# Altium footprint library MSP430F5529.PcbLib: 3 footprints
Each footprint in its own frame and in the unit in brackets; x right, y up, seen from the top. Pads: shape width x height; smd on the part's side, far side on the other; paste and mask are expansions set on the pad; w line width, h text height; cw(c..) or ccw(c..) is an arc to the next point about the centre after c.
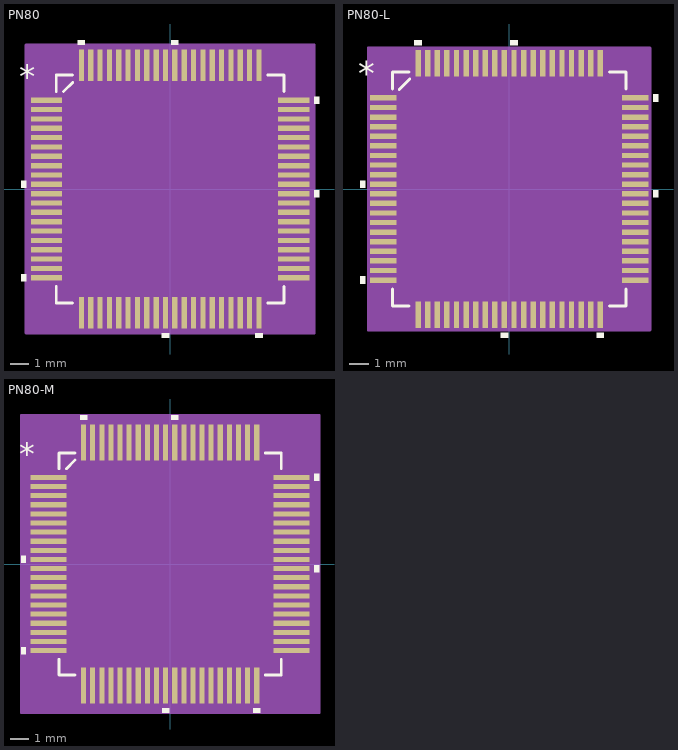
[diagram p0: the footprints below, top view; thin cyan lines are the x and y axes]

## PN80 [mil]
pads (80):
  rect 66x11 smd: 1(-260.5,187.01) 2(-260.5,167.32) 3(-260.5,147.64) 4(-260.5,127.95) 5(-260.5,108.27) 6(-260.5,88.58) 7(-260.5,68.9) 8(-260.5,49.21) 9(-260.5,29.53) 10(-260.5,9.84) 11(-260.5,-9.84) 12(-260.5,-29.53) 13(-260.5,-49.21) 14(-260.5,-68.9) 15(-260.5,-88.58) 16(-260.5,-108.27) 17(-260.5,-127.95) 18(-260.5,-147.64) 19(-260.5,-167.32) 20(-260.5,-187.01) 41(260.5,-187.01) 42(260.5,-167.32) 43(260.5,-147.64) 44(260.5,-127.95) 45(260.5,-108.27) 46(260.5,-88.58) 47(260.5,-68.9) 48(260.5,-49.21) 49(260.5,-29.53) 50(260.5,-9.84) 51(260.5,9.84) 52(260.5,29.53) 53(260.5,49.21) 54(260.5,68.9) 55(260.5,88.58) 56(260.5,108.27) 57(260.5,127.95) 58(260.5,147.64) 59(260.5,167.32) 60(260.5,187.01)
  rect 11x66 smd: 21(-187.01,-260.5) 22(-167.32,-260.5) 23(-147.64,-260.5) 24(-127.95,-260.5) 25(-108.27,-260.5) 26(-88.58,-260.5) 27(-68.9,-260.5) 28(-49.21,-260.5) 29(-29.53,-260.5) 30(-9.84,-260.5) 31(9.84,-260.5) 32(29.53,-260.5) 33(49.21,-260.5) 34(68.9,-260.5) 35(88.58,-260.5) 36(108.27,-260.5) 37(127.95,-260.5) 38(147.64,-260.5) 39(167.32,-260.5) 40(187.01,-260.5) 61(187.01,260.5) 62(167.32,260.5) 63(147.64,260.5) 64(127.95,260.5) 65(108.27,260.5) 66(88.58,260.5) 67(68.9,260.5) 68(49.21,260.5) 69(29.53,260.5) 70(9.84,260.5) 71(-9.84,260.5) 72(-29.53,260.5) 73(-49.21,260.5) 74(-68.9,260.5) 75(-88.58,260.5) 76(-108.27,260.5) 77(-127.95,260.5) 78(-147.64,260.5) 79(-167.32,260.5) 80(-187.01,260.5)
Top Overlay:
  region: -179.51,303.5 -194.51,303.5 -194.51,313.5 -179.51,313.5
  region: 17.34,303.5 2.34,303.5 2.34,313.5 17.34,313.5
  region: 303.5,194.51 313.5,194.51 313.5,179.51 303.5,179.51
  region: 303.5,-2.34 313.5,-2.34 313.5,-17.34 303.5,-17.34
  region: 194.51,-303.5 179.51,-303.5 179.51,-313.5 194.51,-313.5
  region: -2.34,-303.5 -17.34,-303.5 -17.34,-313.5 -2.34,-313.5
  region: -303.5,-179.51 -313.5,-179.51 -313.5,-194.51 -303.5,-194.51
  region: -303.5,17.34 -313.5,17.34 -313.5,2.34 -303.5,2.34
  lines w6: -240,-205.61 -240,-240 -205.61,-240 ; -240,205.61 -240,240 -205.61,240 ; -224.7,205.3 -205.3,224.7 ; 205.61,-240 240,-240 240,-205.61 ; 205.61,240 240,240 240,205.61
  text "*" at -318.5,211.85 h50
Mechanical 13:
  text "*" at -318.5,211.85 h50
Mechanical 15:
  region: 303.5,-303.5 -303.5,-303.5 -303.5,303.5 303.5,303.5
  lines w6: -303.5,-303.5 303.5,-303.5 303.5,303.5 -303.5,303.5 -303.5,-303.5

## PN80-L [mil]
pads (80):
  rect 54x11 smd: 1(-258.5,187.01) 2(-258.5,167.32) 3(-258.5,147.64) 4(-258.5,127.95) 5(-258.5,108.27) 6(-258.5,88.58) 7(-258.5,68.9) 8(-258.5,49.21) 9(-258.5,29.53) 10(-258.5,9.84) 11(-258.5,-9.84) 12(-258.5,-29.53) 13(-258.5,-49.21) 14(-258.5,-68.9) 15(-258.5,-88.58) 16(-258.5,-108.27) 17(-258.5,-127.95) 18(-258.5,-147.64) 19(-258.5,-167.32) 20(-258.5,-187.01) 41(258.5,-187.01) 42(258.5,-167.32) 43(258.5,-147.64) 44(258.5,-127.95) 45(258.5,-108.27) 46(258.5,-88.58) 47(258.5,-68.9) 48(258.5,-49.21) 49(258.5,-29.53) 50(258.5,-9.84) 51(258.5,9.84) 52(258.5,29.53) 53(258.5,49.21) 54(258.5,68.9) 55(258.5,88.58) 56(258.5,108.27) 57(258.5,127.95) 58(258.5,147.64) 59(258.5,167.32) 60(258.5,187.01)
  rect 11x54 smd: 21(-187.01,-258.5) 22(-167.32,-258.5) 23(-147.64,-258.5) 24(-127.95,-258.5) 25(-108.27,-258.5) 26(-88.58,-258.5) 27(-68.9,-258.5) 28(-49.21,-258.5) 29(-29.53,-258.5) 30(-9.84,-258.5) 31(9.84,-258.5) 32(29.53,-258.5) 33(49.21,-258.5) 34(68.9,-258.5) 35(88.58,-258.5) 36(108.27,-258.5) 37(127.95,-258.5) 38(147.64,-258.5) 39(167.32,-258.5) 40(187.01,-258.5) 61(187.01,258.5) 62(167.32,258.5) 63(147.64,258.5) 64(127.95,258.5) 65(108.27,258.5) 66(88.58,258.5) 67(68.9,258.5) 68(49.21,258.5) 69(29.53,258.5) 70(9.84,258.5) 71(-9.84,258.5) 72(-29.53,258.5) 73(-49.21,258.5) 74(-68.9,258.5) 75(-88.58,258.5) 76(-108.27,258.5) 77(-127.95,258.5) 78(-147.64,258.5) 79(-167.32,258.5) 80(-187.01,258.5)
Top Overlay:
  region: -179.51,295.5 -194.51,295.5 -194.51,305.5 -179.51,305.5
  region: 17.34,295.5 2.34,295.5 2.34,305.5 17.34,305.5
  region: 295.5,194.51 305.5,194.51 305.5,179.51 295.5,179.51
  region: 295.5,-2.34 305.5,-2.34 305.5,-17.34 295.5,-17.34
  region: 194.51,-295.5 179.51,-295.5 179.51,-305.5 194.51,-305.5
  region: -2.34,-295.5 -17.34,-295.5 -17.34,-305.5 -2.34,-305.5
  region: -295.5,-179.51 -305.5,-179.51 -305.5,-194.51 -295.5,-194.51
  region: -295.5,17.34 -305.5,17.34 -305.5,2.34 -295.5,2.34
  lines w6: -240,-205.61 -240,-240 -205.61,-240 ; -240,205.61 -240,240 -205.61,240 ; -225.73,204.27 -204.27,225.73 ; 205.61,-240 240,-240 240,-205.61 ; 205.61,240 240,240 240,205.61
  text "*" at -310.5,211.85 h50
Mechanical 13:
  text "*" at -310.5,211.85 h50
Mechanical 15:
  region: 289.5,-289.5 -289.5,-289.5 -289.5,289.5 289.5,289.5
  lines w6: -289.5,-289.5 289.5,-289.5 289.5,289.5 -289.5,289.5 -289.5,-289.5

## PN80-M [mil]
pads (80):
  rect 78x11 smd: 1(-262.5,187.01) 2(-262.5,167.32) 3(-262.5,147.64) 4(-262.5,127.95) 5(-262.5,108.27) 6(-262.5,88.58) 7(-262.5,68.9) 8(-262.5,49.21) 9(-262.5,29.53) 10(-262.5,9.84) 11(-262.5,-9.84) 12(-262.5,-29.53) 13(-262.5,-49.21) 14(-262.5,-68.9) 15(-262.5,-88.58) 16(-262.5,-108.27) 17(-262.5,-127.95) 18(-262.5,-147.64) 19(-262.5,-167.32) 20(-262.5,-187.01) 41(262.5,-187.01) 42(262.5,-167.32) 43(262.5,-147.64) 44(262.5,-127.95) 45(262.5,-108.27) 46(262.5,-88.58) 47(262.5,-68.9) 48(262.5,-49.21) 49(262.5,-29.53) 50(262.5,-9.84) 51(262.5,9.84) 52(262.5,29.53) 53(262.5,49.21) 54(262.5,68.9) 55(262.5,88.58) 56(262.5,108.27) 57(262.5,127.95) 58(262.5,147.64) 59(262.5,167.32) 60(262.5,187.01)
  rect 11x78 smd: 21(-187.01,-262.5) 22(-167.32,-262.5) 23(-147.64,-262.5) 24(-127.95,-262.5) 25(-108.27,-262.5) 26(-88.58,-262.5) 27(-68.9,-262.5) 28(-49.21,-262.5) 29(-29.53,-262.5) 30(-9.84,-262.5) 31(9.84,-262.5) 32(29.53,-262.5) 33(49.21,-262.5) 34(68.9,-262.5) 35(88.58,-262.5) 36(108.27,-262.5) 37(127.95,-262.5) 38(147.64,-262.5) 39(167.32,-262.5) 40(187.01,-262.5) 61(187.01,262.5) 62(167.32,262.5) 63(147.64,262.5) 64(127.95,262.5) 65(108.27,262.5) 66(88.58,262.5) 67(68.9,262.5) 68(49.21,262.5) 69(29.53,262.5) 70(9.84,262.5) 71(-9.84,262.5) 72(-29.53,262.5) 73(-49.21,262.5) 74(-68.9,262.5) 75(-88.58,262.5) 76(-108.27,262.5) 77(-127.95,262.5) 78(-147.64,262.5) 79(-167.32,262.5) 80(-187.01,262.5)
Top Overlay:
  region: -179.51,311.5 -194.51,311.5 -194.51,321.5 -179.51,321.5
  region: 17.34,311.5 2.34,311.5 2.34,321.5 17.34,321.5
  region: 311.5,194.51 321.5,194.51 321.5,179.51 311.5,179.51
  region: 311.5,-2.34 321.5,-2.34 321.5,-17.34 311.5,-17.34
  region: 194.51,-311.5 179.51,-311.5 179.51,-321.5 194.51,-321.5
  region: -2.34,-311.5 -17.34,-311.5 -17.34,-321.5 -2.34,-321.5
  region: -311.5,-179.51 -321.5,-179.51 -321.5,-194.51 -311.5,-194.51
  region: -311.5,17.34 -321.5,17.34 -321.5,2.34 -311.5,2.34
  lines w6: -240,-205.61 -240,-240 -205.61,-240 ; -240,205.61 -240,240 -205.61,240 ; -224.39,205.61 -205.61,224.39 ; 205.61,-240 240,-240 240,-205.61 ; 205.61,240 240,240 240,205.61
  text "*" at -326.5,211.85 h50
Mechanical 13:
  text "*" at -326.5,211.85 h50
Mechanical 15:
  region: 321.5,-321.5 -321.5,-321.5 -321.5,321.5 321.5,321.5
  lines w6: -321.5,-321.5 321.5,-321.5 321.5,321.5 -321.5,321.5 -321.5,-321.5